# EAGLE library part FH12-40S-0.5SV (library Mechanical)
Hirose FH12 series 0.5mm 40 pin verticle connector
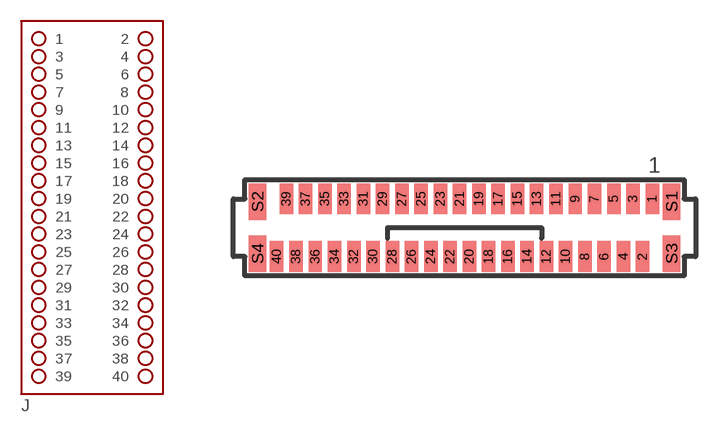
[diagram p59: symbol with the pads of FH12-40S-0.5SV; footprint FH12-40S-0.5SV]

Designator prefix J

## FH12-40S-0.5SV  [FH12-40S-0.5SV]
1  1  pas
2  2  pas
3  3  pas
4  4  pas
5  5  pas
6  6  pas
7  7  pas
8  8  pas
9  9  pas
10  10  pas
11  11  pas
12  12  pas
13  13  pas
14  14  pas
15  15  pas
16  16  pas
17  17  pas
18  18  pas
19  19  pas
20  20  pas
21  21  pas
22  22  pas
23  23  pas
24  24  pas
25  25  pas
26  26  pas
27  27  pas
28  28  pas
29  29  pas
30  30  pas
31  31  pas
32  32  pas
33  33  pas
34  34  pas
35  35  pas
36  36  pas
37  37  pas
38  38  pas
39  39  pas
40  40  pas

## Footprint FH12-40S-0.5SV (pad centres in mm)
Hirose FH12 Series Verticle Mount 0.5mm pitch 40 pin connector
smd 0.7 x 1.6: 1 9.75,1.5; 2 9.25,-1.5; 3 8.75,1.5; 4 8.25,-1.5; 5 7.75,1.5; 6 7.25,-1.5; 7 6.75,1.5; 8 6.25,-1.5; 9 5.75,1.5; 10 5.25,-1.5; 11 4.75,1.5; 12 4.25,-1.5; 13 3.75,1.5; 14 3.25,-1.5; 15 2.75,1.5; 16 2.25,-1.5; 17 1.75,1.5; 18 1.25,-1.5; 19 0.75,1.5; 20 0.25,-1.5; 21 -0.25,1.5; 22 -0.75,-1.5; 23 -1.25,1.5; 24 -1.75,-1.5; 25 -2.25,1.5; 26 -2.75,-1.5; 27 -3.25,1.5; 28 -3.75,-1.5; 29 -4.25,1.5; 30 -4.75,-1.5; 31 -5.25,1.5; 32 -5.75,-1.5; 33 -6.25,1.5; 34 -6.75,-1.5; 35 -7.25,1.5; 36 -7.75,-1.5; 37 -8.25,1.5; 38 -8.75,-1.5; 39 -9.25,1.5; 40 -9.75,-1.5
smd 0.9 x 1.9: S1 10.75,1.35; S2 -10.75,1.35; S3 10.75,-1.35; S4 -10.75,-1.35